# EAGLE library part USB_C_8PIN (library USB)
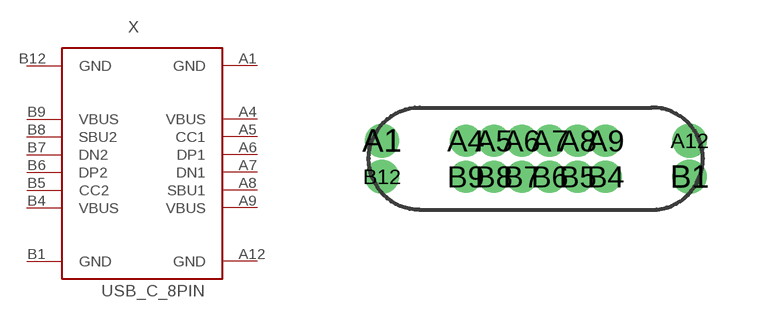
[diagram p1: symbol with the pads of USB_C_VERT_THT_8PIN; footprint USB_C_VERT_THT_8PIN]

Designator prefix X

## USB_C_8PIN  [USB_C_VERT_THT_8PIN]
A1  GND
A4  VBUS
A5  CC1
A6  DP1
A7  DN1
A8  SBU1
A9  VBUS
A12  GND
B1  GND
B4  VBUS
B5  CC2
B6  DP2
B7  DN2
B8  SBU2
B9  VBUS
B12  GND

## Footprint USB_C_VERT_THT_8PIN (pad centres in mm)
WR-COM Micro USB 2.0 Type AB Vertical 5 Contacts
drill 0.35 pad 0.55: A1 -3.85,0.45; A12 3.85,0.45; B1 3.85,-0.45; B12 -3.85,-0.45
drill 0.3 pad 0.55: A4 -1.75,0.45; A5 -1.05,0.45; A6 -0.35,0.45; A7 0.35,0.45; A8 1.05,0.45; A9 1.75,0.45; B4 1.75,-0.45; B5 1.05,-0.45; B6 0.35,-0.45; B7 -0.35,-0.45; B8 -1.05,-0.45; B9 -1.75,-0.45